# Altium footprint library Potentiometers THD.PcbLib: 15 footprints
Each footprint in its own frame and in the unit in brackets; x right, y up, seen from the top. Pads: shape width x height; smd on the part's side, far side on the other; paste and mask are expansions set on the pad; w line width, h text height; cw(c..) or ccw(c..) is an arc to the next point about the centre after c.
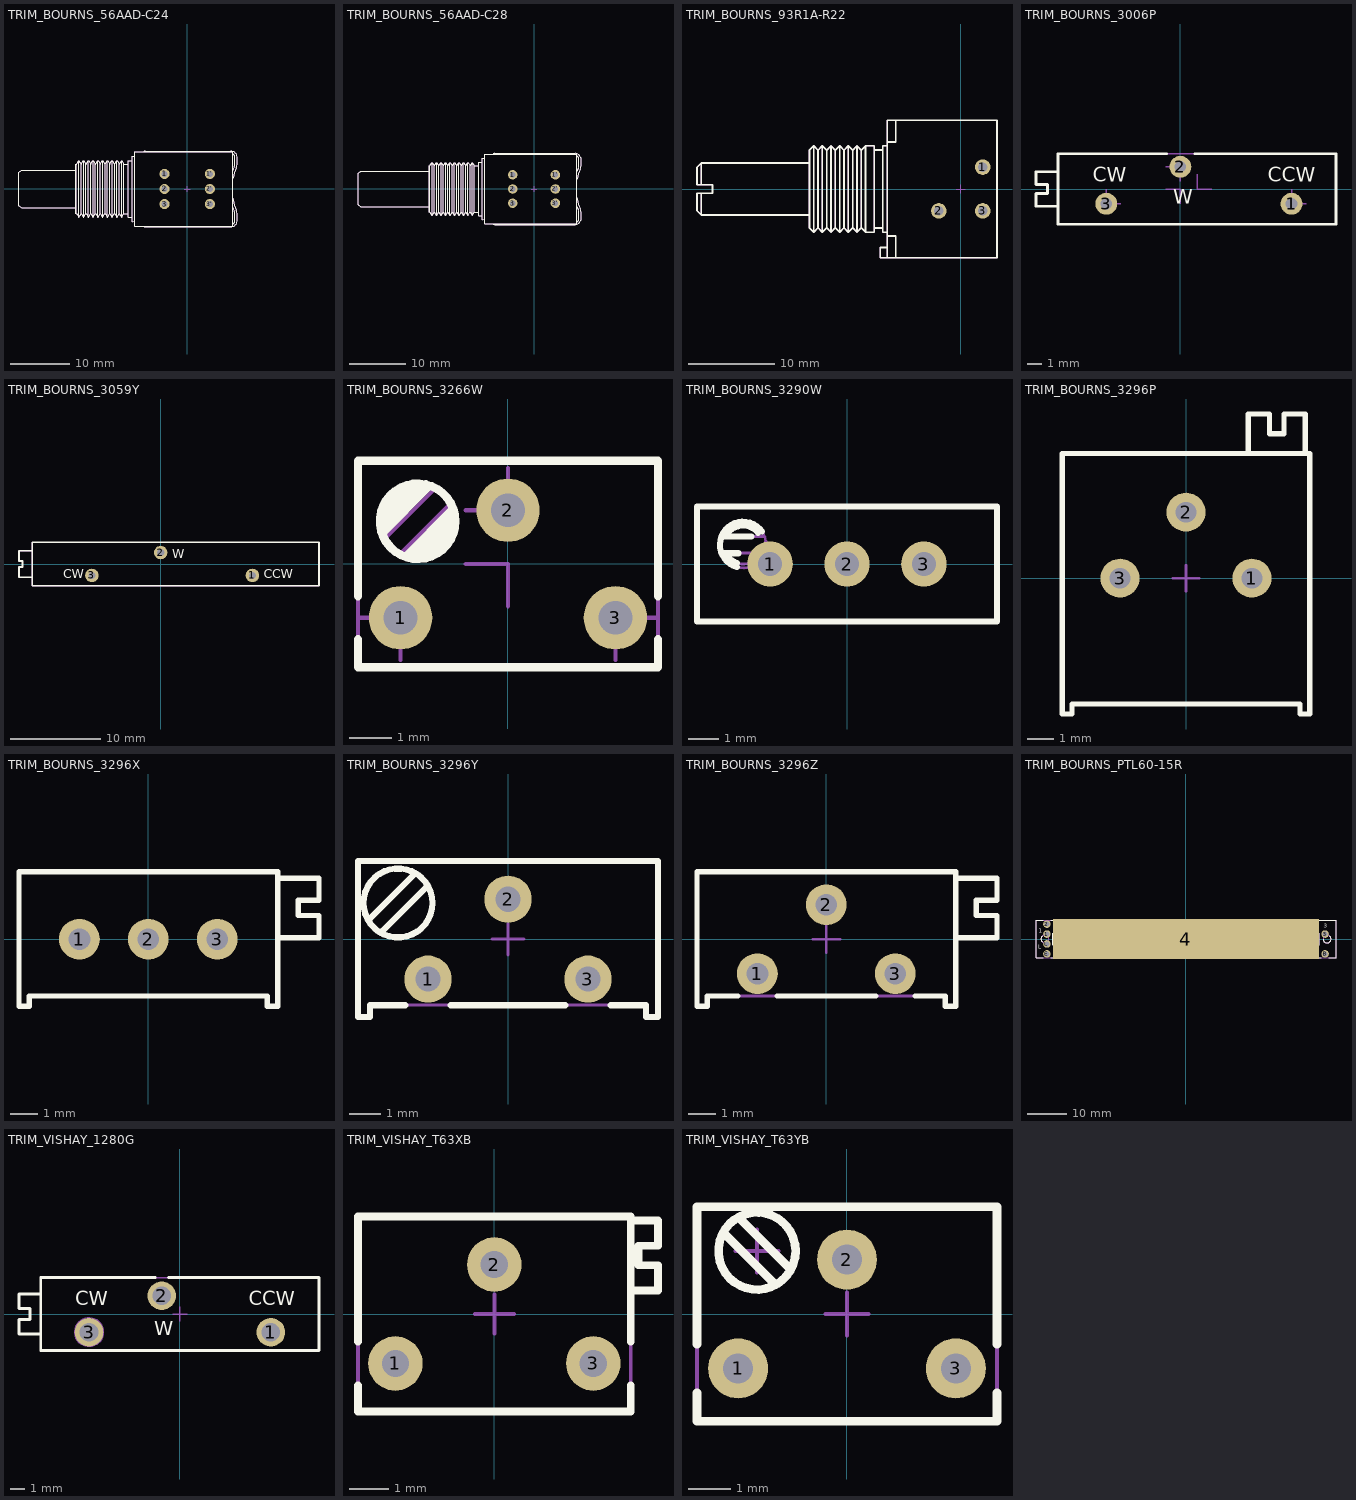
[diagram p0: the footprints below, top view; thin cyan lines are the x and y axes]

## TRIM_BOURNS_56AAD-C24 [mm] "Panel Control Trimming Potentiometer with Rotary (Clock Wise) SPDT Switch, Serie 56"
height 13.25
pads (6):
  round 1.7 hole 1: 1(-3.81,2.54) 1'(3.81,2.54) 2(-3.81,0) 2'(3.81,0) 3(-3.81,-2.54) 3'(3.81,-2.54)
Top Overlay:
  lines w0.2: -18.773,-4.125 -18.773,4.125 ; -18.653,-4.125 -18.603,-4.125 -18.253,-4.725 -18.203,-4.725 -17.853,-4.125 -17.803,-4.125 -17.453,-4.725 -17.403,-4.725 -17.053,-4.125 -17.003,-4.125 -16.653,-4.725 -16.603,-4.725 -16.253,-4.125 -16.203,-4.125 -15.853,-4.725 -15.803,-4.725 -15.453,-4.125 -15.403,-4.125 -15.053,-4.725 -15.003,-4.725 -14.653,-4.125 -14.603,-4.125 -14.253,-4.725 -14.203,-4.725 -13.853,-4.125 -13.803,-4.125 -13.453,-4.725 -13.403,-4.725 -13.053,-4.125 -13.003,-4.125 -12.653,-4.725 -12.603,-4.725 -12.253,-4.125 -12.203,-4.125 -11.853,-4.725 -11.803,-4.725 -11.453,-4.125 -11.403,-4.125 -11.053,-4.725 -11.003,-4.725 -10.653,-4.125 ; -18.653,4.125 -18.603,4.125 -18.253,4.725 -18.203,4.725 -17.853,4.125 -17.803,4.125 -17.453,4.725 -17.403,4.725 -17.053,4.125 -17.003,4.125 -16.653,4.725 -16.603,4.725 -16.253,4.125 -16.203,4.125 -15.853,4.725 -15.803,4.725 -15.453,4.125 -15.403,4.125 -15.053,4.725 -15.003,4.725 -14.653,4.125 -14.603,4.125 -14.253,4.725 -14.203,4.725 -13.853,4.125 -13.803,4.125 -13.453,4.725 -13.403,4.725 -13.053,4.125 -13.003,4.125 -12.653,4.725 -12.603,4.725 -12.253,4.125 -12.203,4.125 -11.853,4.725 -11.803,4.725 -11.453,4.125 -11.403,4.125 -11.053,4.725 -11.003,4.725 -10.653,4.125 ; -18.628,-4.125 -18.628,4.125 ; -18.228,-4.725 -18.228,4.725 ; -17.828,-4.125 -17.828,4.125 ; -17.428,-4.725 -17.428,4.725 ; -17.028,-4.125 -17.028,4.125 ; -16.628,-4.725 -16.628,4.725 ; -16.228,-4.125 -16.228,4.125 ; -15.828,-4.725 -15.828,4.725 ; -15.428,-4.125 -15.428,4.125 ; -15.028,-4.725 -15.028,4.725 ; -14.628,-4.125 -14.628,4.125 ; -14.228,-4.725 -14.228,4.725 ; -13.828,-4.125 -13.828,4.125 ; -13.428,-4.725 -13.428,4.725 ; -13.028,-4.125 -13.028,4.125 ; -12.628,-4.725 -12.628,4.725 ; -12.228,-4.125 -12.228,4.125 ; -11.828,-4.725 -11.828,4.725 ; -11.428,-4.125 -11.428,4.125 ; -11.028,-4.725 -11.028,4.725 ; -9.891,-4.178 -10.653,-4.178 -10.653,4.178 -9.891,4.178 ; -9.256,-4.763 -9.891,-4.763 -9.891,4.762 -9.256,4.762 ; -8.837,-5.447 -9.243,-5.512 -9.243,5.512 -8.837,5.512 ; -7.33,-6.248 ccw(c-7.052,-5.918) -7.052,-6.35 7.354,-6.35 ccw(c7.354,-5.294) 8.41,-5.294 8.41,-4.315 ccw(c6.53,-4.315) 8.246,-3.547 cw(c14.706,-0.656) 7.733,-1.87 7.673,-1.524 ; -7.33,6.248 cw(c-7.052,5.918) -7.052,6.35 7.354,6.35 cw(c7.354,5.294) 8.41,5.294 8.41,4.315 cw(c6.53,4.315) 8.246,3.547 ccw(c14.706,0.656) 7.733,1.87 7.673,1.524 ; 7.673,-5.889 ccw(c7.354,-5.294) 8.029,-5.294 8.029,-4.315 ccw(c6.53,-4.315) 7.898,-3.702 cw(c14.706,-0.656) 7.673,-3.14 ; 7.673,3.14 cw(c14.706,0.656) 7.898,3.702 ccw(c6.53,4.315) 8.029,4.315 8.029,5.294 ccw(c7.354,5.294) 7.673,5.889 ; -28.293,-2.821 -27.793,-3.175 -18.773,-3.175 -18.773,3.175 -27.793,3.175 -28.293,2.821 -28.293,-2.821 ; -8.837,-6.248 7.673,-6.248 7.673,6.248 -8.837,6.248 -8.837,-6.248
Mechanical 8:
  lines w0.1: -4.31,-2.54 -3.81,-2.54 ; -4.31,-0.001 -3.81,-0.001 ; -4.31,2.54 -3.81,2.54 ; -3.81,-3.04 -3.81,-2.54 ; -3.81,-2.04 -3.81,-2.54 ; -3.81,-0.501 -3.81,-0.001 ; -3.81,0.499 -3.81,-0.001 ; -3.81,2.04 -3.81,2.54 ; -3.81,3.04 -3.81,2.54 ; -3.31,-2.54 -3.81,-2.54 ; -3.31,-0.001 -3.81,-0.001 ; -3.31,2.54 -3.81,2.54 ; -0.5,0 0,0 ; 0,-0.5 0,0 ; 0,0.5 0,0 ; 0.5,0 0,0 ; 3.31,-2.54 3.81,-2.54 ; 3.31,-0.001 3.81,-0.001 ; 3.31,2.54 3.81,2.54 ; 3.81,-3.04 3.81,-2.54 ; 3.81,-2.04 3.81,-2.54 ; 3.81,-0.501 3.81,-0.001 ; 3.81,0.499 3.81,-0.001 ; 3.81,2.04 3.81,2.54 ; 3.81,3.04 3.81,2.54 ; 4.31,-2.54 3.81,-2.54 ; 4.31,-0.001 3.81,-0.001 ; 4.31,2.54 3.81,2.54
Mechanical 14:
  lines w0.1: -18.773,-4.125 -18.773,4.125 ; -18.653,-4.125 -18.603,-4.125 -18.253,-4.725 -18.203,-4.725 -17.853,-4.125 -17.803,-4.125 -17.453,-4.725 -17.403,-4.725 -17.053,-4.125 -17.003,-4.125 -16.653,-4.725 -16.603,-4.725 -16.253,-4.125 -16.203,-4.125 -15.853,-4.725 -15.803,-4.725 -15.453,-4.125 -15.403,-4.125 -15.053,-4.725 -15.003,-4.725 -14.653,-4.125 -14.603,-4.125 -14.253,-4.725 -14.203,-4.725 -13.853,-4.125 -13.803,-4.125 -13.453,-4.725 -13.403,-4.725 -13.053,-4.125 -13.003,-4.125 -12.653,-4.725 -12.603,-4.725 -12.253,-4.125 -12.203,-4.125 -11.853,-4.725 -11.803,-4.725 -11.453,-4.125 -11.403,-4.125 -11.053,-4.725 -11.003,-4.725 -10.653,-4.125 ; -18.653,4.125 -18.603,4.125 -18.253,4.725 -18.203,4.725 -17.853,4.125 -17.803,4.125 -17.453,4.725 -17.403,4.725 -17.053,4.125 -17.003,4.125 -16.653,4.725 -16.603,4.725 -16.253,4.125 -16.203,4.125 -15.853,4.725 -15.803,4.725 -15.453,4.125 -15.403,4.125 -15.053,4.725 -15.003,4.725 -14.653,4.125 -14.603,4.125 -14.253,4.725 -14.203,4.725 -13.853,4.125 -13.803,4.125 -13.453,4.725 -13.403,4.725 -13.053,4.125 -13.003,4.125 -12.653,4.725 -12.603,4.725 -12.253,4.125 -12.203,4.125 -11.853,4.725 -11.803,4.725 -11.453,4.125 -11.403,4.125 -11.053,4.725 -11.003,4.725 -10.653,4.125 ; -18.628,-4.125 -18.628,4.125 ; -18.228,-4.725 -18.228,4.725 ; -17.828,-4.125 -17.828,4.125 ; -17.428,-4.725 -17.428,4.725 ; -17.028,-4.125 -17.028,4.125 ; -16.628,-4.725 -16.628,4.725 ; -16.228,-4.125 -16.228,4.125 ; -15.828,-4.725 -15.828,4.725 ; -15.428,-4.125 -15.428,4.125 ; -15.028,-4.725 -15.028,4.725 ; -14.628,-4.125 -14.628,4.125 ; -14.228,-4.725 -14.228,4.725 ; -13.828,-4.125 -13.828,4.125 ; -13.428,-4.725 -13.428,4.725 ; -13.028,-4.125 -13.028,4.125 ; -12.628,-4.725 -12.628,4.725 ; -12.228,-4.125 -12.228,4.125 ; -11.828,-4.725 -11.828,4.725 ; -11.428,-4.125 -11.428,4.125 ; -11.028,-4.725 -11.028,4.725 ; -9.891,-4.178 -10.653,-4.178 -10.653,4.178 -9.891,4.178 ; -9.256,-4.763 -9.891,-4.763 -9.891,4.762 -9.256,4.762 ; -8.837,-5.447 -9.243,-5.512 -9.243,5.512 -8.837,5.512 ; -7.33,-6.248 ccw(c-7.052,-5.918) -7.052,-6.35 7.354,-6.35 ccw(c7.354,-5.294) 8.41,-5.294 8.41,-4.315 ccw(c6.53,-4.315) 8.246,-3.547 cw(c14.706,-0.656) 7.733,-1.87 7.673,-1.524 ; -7.33,6.248 cw(c-7.052,5.918) -7.052,6.35 7.354,6.35 cw(c7.354,5.294) 8.41,5.294 8.41,4.315 cw(c6.53,4.315) 8.246,3.547 ccw(c14.706,0.656) 7.733,1.87 7.673,1.524 ; 7.673,-5.889 ccw(c7.354,-5.294) 8.029,-5.294 8.029,-4.315 ccw(c6.53,-4.315) 7.898,-3.702 cw(c14.706,-0.656) 7.673,-3.14 ; 7.673,3.14 cw(c14.706,0.656) 7.898,3.702 ccw(c6.53,4.315) 8.029,4.315 8.029,5.294 ccw(c7.354,5.294) 7.673,5.889 ; -28.293,-2.821 -27.793,-3.175 -18.773,-3.175 -18.773,3.175 -27.793,3.175 -28.293,2.821 -28.293,-2.821 ; -8.837,-6.248 7.673,-6.248 7.673,6.248 -8.837,6.248 -8.837,-6.248
3D body "TRIM_BOURNS_56AAD-C24_Part2.stp": height 14.09, standoff -0.12, extent -12.582,-6.772 -9.241,6.772
3D body "TRIM_BOURNS_56AAD-C24_Part1.stp": height 13.23, standoff -6.9, extent -28.293,-6.35 8.41,6.35

## TRIM_BOURNS_56AAD-C28 [mm] "Panel Control Trimming Potentiometer with Rotary (Clock Wise) SPDT Switch, Serie 56"
height 13.25
pads (6):
  round 1.7 hole 1: 1(-3.81,2.54) 1'(3.81,2.54) 2(-3.81,0) 2'(3.81,0) 3(-3.81,-2.54) 3'(3.81,-2.54)
Top Overlay:
  lines w0.2: -18.773,-4.125 -18.773,4.125 ; -18.653,-4.125 -18.603,-4.125 -18.253,-4.725 -18.203,-4.725 -17.853,-4.125 -17.803,-4.125 -17.453,-4.725 -17.403,-4.725 -17.053,-4.125 -17.003,-4.125 -16.653,-4.725 -16.603,-4.725 -16.253,-4.125 -16.203,-4.125 -15.853,-4.725 -15.803,-4.725 -15.453,-4.125 -15.403,-4.125 -15.053,-4.725 -15.003,-4.725 -14.653,-4.125 -14.603,-4.125 -14.253,-4.725 -14.203,-4.725 -13.853,-4.125 -13.803,-4.125 -13.453,-4.725 -13.403,-4.725 -13.053,-4.125 -13.003,-4.125 -12.653,-4.725 -12.603,-4.725 -12.253,-4.125 -12.203,-4.125 -11.853,-4.725 -11.803,-4.725 -11.453,-4.125 -11.403,-4.125 -11.053,-4.725 -11.003,-4.725 -10.653,-4.125 ; -18.653,4.125 -18.603,4.125 -18.253,4.725 -18.203,4.725 -17.853,4.125 -17.803,4.125 -17.453,4.725 -17.403,4.725 -17.053,4.125 -17.003,4.125 -16.653,4.725 -16.603,4.725 -16.253,4.125 -16.203,4.125 -15.853,4.725 -15.803,4.725 -15.453,4.125 -15.403,4.125 -15.053,4.725 -15.003,4.725 -14.653,4.125 -14.603,4.125 -14.253,4.725 -14.203,4.725 -13.853,4.125 -13.803,4.125 -13.453,4.725 -13.403,4.725 -13.053,4.125 -13.003,4.125 -12.653,4.725 -12.603,4.725 -12.253,4.125 -12.203,4.125 -11.853,4.725 -11.803,4.725 -11.453,4.125 -11.403,4.125 -11.053,4.725 -11.003,4.725 -10.653,4.125 ; -18.628,-4.125 -18.628,4.125 ; -18.228,-4.725 -18.228,4.725 ; -17.828,-4.125 -17.828,4.125 ; -17.428,-4.725 -17.428,4.725 ; -17.028,-4.125 -17.028,4.125 ; -16.628,-4.725 -16.628,4.725 ; -16.228,-4.125 -16.228,4.125 ; -15.828,-4.725 -15.828,4.725 ; -15.428,-4.125 -15.428,4.125 ; -15.028,-4.725 -15.028,4.725 ; -14.628,-4.125 -14.628,4.125 ; -14.228,-4.725 -14.228,4.725 ; -13.828,-4.125 -13.828,4.125 ; -13.428,-4.725 -13.428,4.725 ; -13.028,-4.125 -13.028,4.125 ; -12.628,-4.725 -12.628,4.725 ; -12.228,-4.125 -12.228,4.125 ; -11.828,-4.725 -11.828,4.725 ; -11.428,-4.125 -11.428,4.125 ; -11.028,-4.725 -11.028,4.725 ; -9.891,-4.178 -10.653,-4.178 -10.653,4.178 -9.891,4.178 ; -9.256,-4.763 -9.891,-4.763 -9.891,4.762 -9.256,4.762 ; -8.837,-5.447 -9.243,-5.512 -9.243,5.512 -8.837,5.512 ; -7.33,-6.248 ccw(c-7.052,-5.918) -7.052,-6.35 7.354,-6.35 ccw(c7.354,-5.294) 8.41,-5.294 8.41,-4.315 ccw(c6.53,-4.315) 8.246,-3.547 cw(c14.706,-0.656) 7.733,-1.87 7.673,-1.524 ; -7.33,6.248 cw(c-7.052,5.918) -7.052,6.35 7.354,6.35 cw(c7.354,5.294) 8.41,5.294 8.41,4.315 cw(c6.53,4.315) 8.246,3.547 ccw(c14.706,0.656) 7.733,1.87 7.673,1.524 ; 7.673,-5.889 ccw(c7.354,-5.294) 8.029,-5.294 8.029,-4.315 ccw(c6.53,-4.315) 7.898,-3.702 cw(c14.706,-0.656) 7.673,-3.14 ; 7.673,3.14 cw(c14.706,0.656) 7.898,3.702 ccw(c6.53,4.315) 8.029,4.315 8.029,5.294 ccw(c7.354,5.294) 7.673,5.889 ; -31.473,-2.821 -30.973,-3.175 -18.773,-3.175 -18.773,3.175 -30.973,3.175 -31.473,2.821 -31.473,-2.821 ; -8.837,-6.248 7.673,-6.248 7.673,6.248 -8.837,6.248 -8.837,-6.248
Mechanical 8:
  lines w0.1: -4.31,-2.54 -3.81,-2.54 ; -4.31,-0.001 -3.81,-0.001 ; -4.31,2.54 -3.81,2.54 ; -3.81,-3.04 -3.81,-2.54 ; -3.81,-2.04 -3.81,-2.54 ; -3.81,-0.501 -3.81,-0.001 ; -3.81,0.499 -3.81,-0.001 ; -3.81,2.04 -3.81,2.54 ; -3.81,3.04 -3.81,2.54 ; -3.31,-2.54 -3.81,-2.54 ; -3.31,-0.001 -3.81,-0.001 ; -3.31,2.54 -3.81,2.54 ; -0.5,0 0,0 ; 0,-0.5 0,0 ; 0,0.5 0,0 ; 0.5,0 0,0 ; 3.31,-2.54 3.81,-2.54 ; 3.31,-0.001 3.81,-0.001 ; 3.31,2.54 3.81,2.54 ; 3.81,-3.04 3.81,-2.54 ; 3.81,-2.04 3.81,-2.54 ; 3.81,-0.501 3.81,-0.001 ; 3.81,0.499 3.81,-0.001 ; 3.81,2.04 3.81,2.54 ; 3.81,3.04 3.81,2.54 ; 4.31,-2.54 3.81,-2.54 ; 4.31,-0.001 3.81,-0.001 ; 4.31,2.54 3.81,2.54
Mechanical 14:
  lines w0.1: -18.773,-4.125 -18.773,4.125 ; -18.653,-4.125 -18.603,-4.125 -18.253,-4.725 -18.203,-4.725 -17.853,-4.125 -17.803,-4.125 -17.453,-4.725 -17.403,-4.725 -17.053,-4.125 -17.003,-4.125 -16.653,-4.725 -16.603,-4.725 -16.253,-4.125 -16.203,-4.125 -15.853,-4.725 -15.803,-4.725 -15.453,-4.125 -15.403,-4.125 -15.053,-4.725 -15.003,-4.725 -14.653,-4.125 -14.603,-4.125 -14.253,-4.725 -14.203,-4.725 -13.853,-4.125 -13.803,-4.125 -13.453,-4.725 -13.403,-4.725 -13.053,-4.125 -13.003,-4.125 -12.653,-4.725 -12.603,-4.725 -12.253,-4.125 -12.203,-4.125 -11.853,-4.725 -11.803,-4.725 -11.453,-4.125 -11.403,-4.125 -11.053,-4.725 -11.003,-4.725 -10.653,-4.125 ; -18.653,4.125 -18.603,4.125 -18.253,4.725 -18.203,4.725 -17.853,4.125 -17.803,4.125 -17.453,4.725 -17.403,4.725 -17.053,4.125 -17.003,4.125 -16.653,4.725 -16.603,4.725 -16.253,4.125 -16.203,4.125 -15.853,4.725 -15.803,4.725 -15.453,4.125 -15.403,4.125 -15.053,4.725 -15.003,4.725 -14.653,4.125 -14.603,4.125 -14.253,4.725 -14.203,4.725 -13.853,4.125 -13.803,4.125 -13.453,4.725 -13.403,4.725 -13.053,4.125 -13.003,4.125 -12.653,4.725 -12.603,4.725 -12.253,4.125 -12.203,4.125 -11.853,4.725 -11.803,4.725 -11.453,4.125 -11.403,4.125 -11.053,4.725 -11.003,4.725 -10.653,4.125 ; -18.628,-4.125 -18.628,4.125 ; -18.228,-4.725 -18.228,4.725 ; -17.828,-4.125 -17.828,4.125 ; -17.428,-4.725 -17.428,4.725 ; -17.028,-4.125 -17.028,4.125 ; -16.628,-4.725 -16.628,4.725 ; -16.228,-4.125 -16.228,4.125 ; -15.828,-4.725 -15.828,4.725 ; -15.428,-4.125 -15.428,4.125 ; -15.028,-4.725 -15.028,4.725 ; -14.628,-4.125 -14.628,4.125 ; -14.228,-4.725 -14.228,4.725 ; -13.828,-4.125 -13.828,4.125 ; -13.428,-4.725 -13.428,4.725 ; -13.028,-4.125 -13.028,4.125 ; -12.628,-4.725 -12.628,4.725 ; -12.228,-4.125 -12.228,4.125 ; -11.828,-4.725 -11.828,4.725 ; -11.428,-4.125 -11.428,4.125 ; -11.028,-4.725 -11.028,4.725 ; -9.891,-4.178 -10.653,-4.178 -10.653,4.178 -9.891,4.178 ; -9.256,-4.763 -9.891,-4.763 -9.891,4.762 -9.256,4.762 ; -8.837,-5.447 -9.243,-5.512 -9.243,5.512 -8.837,5.512 ; -7.33,-6.248 ccw(c-7.052,-5.918) -7.052,-6.35 7.354,-6.35 ccw(c7.354,-5.294) 8.41,-5.294 8.41,-4.315 ccw(c6.53,-4.315) 8.246,-3.547 cw(c14.706,-0.656) 7.733,-1.87 7.673,-1.524 ; -7.33,6.248 cw(c-7.052,5.918) -7.052,6.35 7.354,6.35 cw(c7.354,5.294) 8.41,5.294 8.41,4.315 cw(c6.53,4.315) 8.246,3.547 ccw(c14.706,0.656) 7.733,1.87 7.673,1.524 ; 7.673,-5.889 ccw(c7.354,-5.294) 8.029,-5.294 8.029,-4.315 ccw(c6.53,-4.315) 7.898,-3.702 cw(c14.706,-0.656) 7.673,-3.14 ; 7.673,3.14 cw(c14.706,0.656) 7.898,3.702 ccw(c6.53,4.315) 8.029,4.315 8.029,5.294 ccw(c7.354,5.294) 7.673,5.889 ; -31.473,-2.821 -30.973,-3.175 -18.773,-3.175 -18.773,3.175 -30.973,3.175 -31.473,2.821 -31.473,-2.821 ; -8.837,-6.248 7.673,-6.248 7.673,6.248 -8.837,6.248 -8.837,-6.248
3D body "TRIM_BOURNS_56AAD-C28_Part2.stp": height 14.09, standoff -0.12, extent -12.582,-6.772 -9.241,6.772
3D body "TRIM_BOURNS_56AAD-C28_Part1.stp": height 13.23, standoff -6.9, extent -31.473,-6.35 8.41,6.35

## TRIM_BOURNS_93R1A-R22 [mm] "1 Turn Panel Control Trimming Potentiometer 93 Series"
height 17.45
pads (3):
  round 1.8 hole 1.1: 1(2.54,2.54) 2(-2.54,-2.54) 3(2.54,-2.54)
Top Overlay:
  lines w0.2: -30.01,-0.5 -30.01,-3 ; -30.01,0.5 -30.01,3 ; -17.51,-3 -30.01,-3 ; -17.51,3 -30.01,3 ; -10.01,-4.5 -9.01,-4.5 ; -10.01,4.5 -9.01,4.5 ; -8.51,-7.94 -8.51,7.94 4.19,7.94 4.19,-7.94 -9.3,-7.94 -9.3,-6.76 -8.51,-6.76 ; -8.51,-5.44 -7.51,-5.44 -7.51,-7.94 ; -8.51,-5 -9.01,-5 -9.01,5 -8.51,5 ; -8.51,5.44 -7.51,5.44 -7.51,7.94 ; -30.01,-3 -30.51,-2.5 -30.51,-0.5 -28.71,-0.5 -28.71,0.5 -30.51,0.5 -30.51,2.5 -30.01,3 ; -17.01,-5 -17.01,5 ; -17.01,-5 -16.51,-4.5 ; -17.01,-5 -17.51,-4.5 -17.51,4.5 -17.01,5 ; -17.01,5 -16.51,4.5 ; -16.51,-4.5 -16.51,4.5 ; -16.51,-4.5 -16.01,-5 ; -16.51,4.5 -16.01,5 ; -16.01,-5 -16.01,5 ; -16.01,-5 -15.51,-4.5 ; -16.01,5 -15.51,4.5 ; -15.51,-4.5 -15.51,4.5 ; -15.51,-4.5 -15.01,-5 ; -15.51,4.5 -15.01,5 ; -15.01,-5 -15.01,5 ; -15.01,-5 -14.51,-4.5 ; -15.01,5 -14.51,4.5 ; -14.51,-4.5 -14.51,4.5 ; -14.51,-4.5 -14.01,-5 ; -14.51,4.5 -14.01,5 ; -14.01,-5 -14.01,5 ; -14.01,-5 -13.51,-4.5 ; -14.01,5 -13.51,4.5 ; -13.51,-4.5 -13.51,4.5 ; -13.51,-4.5 -13.01,-5 ; -13.51,4.5 -13.01,5 ; -13.01,-5 -13.01,5 ; -13.01,-5 -12.51,-4.5 ; -13.01,5 -12.51,4.5 ; -12.51,-4.5 -12.51,4.5 ; -12.51,-4.5 -12.01,-5 ; -12.51,4.5 -12.01,5 ; -12.01,-5 -12.01,5 ; -12.01,-5 -11.51,-4.5 ; -12.01,5 -11.51,4.5 ; -11.51,-4.5 -11.51,4.5 ; -11.51,-4.5 -11.01,-5 ; -11.51,4.5 -11.01,5 ; -11.01,-5 -11.01,5 ; -11.01,-5 -10.01,-5 -10.01,5 -11.01,5
Mechanical 8:
  lines w0.05: -3.04,-2.54 -2.54,-2.54 ; -2.54,-3.04 -2.54,-2.54 ; -2.54,-2.04 -2.54,-2.54 ; -2.04,-2.54 -2.54,-2.54 ; -0.5,0 0,0 ; 0,-0.5 0,0 ; 0,0.5 0,0 ; 0.5,0 0,0 ; 2.04,-2.54 2.54,-2.54 ; 2.04,2.54 2.54,2.54 ; 2.54,-3.04 2.54,-2.54 ; 2.54,-2.04 2.54,-2.54 ; 2.54,2.04 2.54,2.54 ; 2.54,3.04 2.54,2.54 ; 3.04,-2.54 2.54,-2.54 ; 3.04,2.54 2.54,2.54
Mechanical 14:
  lines w0.1: -30.01,-0.5 -30.01,-3 ; -30.01,0.5 -30.01,3 ; -17.51,-3 -30.01,-3 ; -17.51,3 -30.01,3 ; -10.01,-4.5 -9.01,-4.5 ; -10.01,4.5 -9.01,4.5 ; -8.51,-7.94 -8.51,7.94 4.19,7.94 4.19,-7.94 -9.3,-7.94 -9.3,-6.76 -8.51,-6.76 ; -8.51,-5.44 -7.51,-5.44 -7.51,-7.94 ; -8.51,-5 -9.01,-5 -9.01,5 -8.51,5 ; -8.51,5.44 -7.51,5.44 -7.51,7.94 ; -30.01,-3 -30.51,-2.5 -30.51,-0.5 -28.71,-0.5 -28.71,0.5 -30.51,0.5 -30.51,2.5 -30.01,3 ; -17.01,-5 -17.01,5 ; -17.01,-5 -16.51,-4.5 ; -17.01,-5 -17.51,-4.5 -17.51,4.5 -17.01,5 ; -17.01,5 -16.51,4.5 ; -16.51,-4.5 -16.51,4.5 ; -16.51,-4.5 -16.01,-5 ; -16.51,4.5 -16.01,5 ; -16.01,-5 -16.01,5 ; -16.01,-5 -15.51,-4.5 ; -16.01,5 -15.51,4.5 ; -15.51,-4.5 -15.51,4.5 ; -15.51,-4.5 -15.01,-5 ; -15.51,4.5 -15.01,5 ; -15.01,-5 -15.01,5 ; -15.01,-5 -14.51,-4.5 ; -15.01,5 -14.51,4.5 ; -14.51,-4.5 -14.51,4.5 ; -14.51,-4.5 -14.01,-5 ; -14.51,4.5 -14.01,5 ; -14.01,-5 -14.01,5 ; -14.01,-5 -13.51,-4.5 ; -14.01,5 -13.51,4.5 ; -13.51,-4.5 -13.51,4.5 ; -13.51,-4.5 -13.01,-5 ; -13.51,4.5 -13.01,5 ; -13.01,-5 -13.01,5 ; -13.01,-5 -12.51,-4.5 ; -13.01,5 -12.51,4.5 ; -12.51,-4.5 -12.51,4.5 ; -12.51,-4.5 -12.01,-5 ; -12.51,4.5 -12.01,5 ; -12.01,-5 -12.01,5 ; -12.01,-5 -11.51,-4.5 ; -12.01,5 -11.51,4.5 ; -11.51,-4.5 -11.51,4.5 ; -11.51,-4.5 -11.01,-5 ; -11.51,4.5 -11.01,5 ; -11.01,-5 -11.01,5 ; -11.01,-5 -10.01,-5 -10.01,5 -11.01,5
3D body "TRIM_BOURNS_93R1A-R22_1.stp": height 16.3, standoff 2.76, extent -14.137,-7.103 -10.796,7.103
3D body "TRIM_BOURNS_93R1A-R22.stp": height 17.45, standoff -12.7, extent -30.51,-7.94 4.19,7.94

## TRIM_BOURNS_3006P [mm] "Trimming Potentiometer BOURNS 3006P Series"
height 6.35
pads (3):
  round 1.5 hole 0.8: 1(7.62,-1.015) 2(0,1.525) 3(-5.08,-1.015)
Top Overlay:
  lines w0.2: -8.38,-1.18 -9.9,-1.18 -9.9,-0.32 -9.11,-0.32 -9.11,0.32 -9.9,0.32 -9.9,1.18 -8.38,1.18 ; -0.95,2.415 -8.38,2.415 -8.38,-2.415 10.67,-2.415 10.67,2.415 1,2.415
  text "CW" at -6,0.5 h1
  text "W" at -0.5,-1 h1
  text "CCW" at 6,0.5 h1
Mechanical 8:
  circle w0.1: c7.62,-1.015 r0.27
  circle w0.1: c-5.08,-1.015 r0.27
  circle w0.1: c0,1.525 r0.27
  lines w0.1: -5.08,-0.015 -5.08,-1.015 -4.08,-1.015 ; -1,0 0,0 0,-1 ; -1,1.525 0,1.525 0,0.525 ; 1.145,1 1.145,0 2.145,0 ; 7.62,-0.015 7.62,-1.015 8.62,-1.015
Mechanical 14:
  lines w0.1: -8.38,-1.18 -9.9,-1.18 -9.9,-0.32 -9.11,-0.32 -9.11,0.32 -9.9,0.32 -9.9,1.18 -8.38,1.18 ; -8.38,-2.415 10.67,-2.415 10.67,2.415 -8.38,2.415 -8.38,-2.415
  text "CW" at -6,0.5 h1
  text "W" at -0.5,-1 h1
  text "CCW" at 6,0.5 h1
3D body "TRIM_BOURNS_3006P.stp": height 6.35, standoff -3.1, extent -9.9,-2.415 10.67,2.415

## TRIM_BOURNS_3059Y [mm] "Trimming Potentiometer BOURNS 3059 Series"
height 8.38
pads (3):
  round 1.5 hole 0.8: 1(10.16,-1.27) 2(0,1.27) 3(-7.62,-1.27)
Top Overlay:
  lines w0.2: -14.22,-1.46 -15.69,-1.46 ; -14.22,1.46 -15.69,1.46 -15.69,0.32 -15.295,0.32 -15.295,-0.32 -15.69,-0.32 ; -15.69,-1.46 -15.69,-0.32 ; -15.69,-1.46 -15.69,-0.32 ; -14.22,-2.415 -14.22,2.415 17.53,2.415 17.53,-2.415 -14.22,-2.415
  text "CCW" at 11.43,-1.587 h1
  text "W" at 1.27,0.635 h1
  text "CW" at -10.795,-1.587 h1
Mechanical 14:
  lines w0.1: -14.22,-1.46 -15.69,-1.46 -15.69,-0.32 -15.295,-0.32 -15.295,0.32 -15.69,0.32 -15.69,1.46 -14.22,1.46 ; -14.22,-2.415 -14.22,2.415 17.53,2.415 17.53,-2.415 -14.22,-2.415
3D body "TRIM_BOURNS_3059Y.stp": height 8.38, standoff -3.8, extent -16.25,-2.415 17.53,2.415

## TRIM_BOURNS_3266W [mm] "Trimming Potentiometer BOURNS 3266W Series"
height 7.75
pads (3):
  round 1.5 hole 0.8: 1(-2.54,-1.27) 2(0,1.27) 3(2.54,-1.27)
Top Overlay:
  circle w0.2: c-2.135,1.01 r0.89
  lines w0.2: -3.545,-1.775 -3.545,-2.44 3.545,-2.44 3.545,-1.775 ; -3.545,-0.765 -3.545,2.44 3.545,2.44 3.545,-0.765 ; -3.012,1.088 -2.228,1.878 ; -3,0.9 -2.028,1.878 ; -2.962,0.737 -1.865,1.84 ; -2.953,1.353 -2.503,1.803 ; -2.405,0.18 -1.308,1.283 ; -2.242,0.142 -1.27,1.12 ; -2.042,0.142 -1.258,0.933 ; -1.767,0.217 -1.317,0.667
Mechanical 8:
  circle w0.1: c0,1.27 r0.245
  circle w0.1: c-2.54,-1.27 r0.245
  circle w0.1: c2.54,-1.27 r0.245
  lines w0.1: -3.54,-1.27 -2.54,-1.27 -2.54,-2.27 ; -1,0 0,0 0,-1 ; -1,1.27 0,1.27 0,2.27 ; 2.54,-2.27 2.54,-1.27 3.54,-1.27
Mechanical 14:
  circle w0.1: c-2.135,1.01 r0.89
  lines w0.1: -2.918,0.587 -1.712,1.793 ; -2.558,0.227 -1.352,1.433 ; -3.545,-2.44 -3.545,2.44 3.545,2.44 3.545,-2.44 -3.545,-2.44
3D body "TRIM_BOURNS_3266W.stp": height 8.77, standoff -3.1, extent -3.545,-2.44 3.545,2.44

## TRIM_BOURNS_3290W [mm] "Trimming Potentiometer BOURNS 3290W Series"
height 9.91
pads (3):
  round 1.5 hole 0.8: 1(-2.54,0) 2(0,0) 3(2.54,0)
Top Overlay:
  lines w0.2: -4.144,0.356 -3.581,0.356 ; -4.144,0.914 -3.151,0.914 ; -4.005,0.356 ccw(c-3.435,0.635) -3.639,0.034 ; -4.005,0.914 cw(c-3.435,0.635) -2.935,1.027 ; -3.635,-0.1 cw(c-3.435,0.635) -2.807,1.067 ; -4.955,-1.905 -4.955,1.905 4.955,1.905 4.955,-1.905 -4.955,-1.905
Mechanical 8:
  lines w0.05: -3.04,0 -2.54,0 ; -2.54,-0.5 -2.54,0 ; -2.54,0.5 -2.54,0 ; -2.04,0 -2.54,0 ; -0.5,0 0,0 ; 0,-0.5 0,0 ; 0,0.5 0,0 ; 0.5,0 0,0 ; 2.04,0 2.54,0 ; 2.54,-0.5 2.54,0 ; 2.54,0.5 2.54,0 ; 3.04,0 2.54,0
Mechanical 14:
  circle w0.1: c-3.435,0.635 r0.762
  lines w0.1: -4.144,0.356 -2.726,0.356 ; -4.144,0.914 -2.726,0.914 ; -4.005,0.356 ccw(c-3.435,0.635) -2.865,0.356 ; -4.005,0.914 cw(c-3.435,0.635) -2.865,0.914 ; -4.955,-1.905 -4.955,1.905 4.955,1.905 4.955,-1.905 -4.955,-1.905
3D body "TRIM_BOURNS_3290W.stp": height 10.93, standoff -8.38, extent -4.955,-1.905 4.955,1.905

## TRIM_BOURNS_3296P [mm] "Trimming Potentiometer BOURNS 3296P Series"
height 4.96
pads (3):
  round 1.5 hole 0.8: 1(2.54,0) 2(0,2.54) 3(-2.54,0)
Top Overlay:
  lines w0.2: 2.4,4.8 2.4,6.32 3.215,6.32 3.215,5.56 3.775,5.56 3.775,6.32 4.59,6.32 4.59,4.8 ; -4.765,-5.23 -4.765,4.8 4.765,4.8 4.765,-5.23 4.385,-5.23 4.385,-4.85 -4.385,-4.85 -4.385,-5.23 -4.765,-5.23
Mechanical 8:
  lines w0.05: -3.04,0 -2.54,0 ; -2.54,-0.5 -2.54,0 ; -2.54,0.5 -2.54,0 ; -2.04,0 -2.54,0 ; -0.5,2.54 0,2.54 ; 0,2.04 0,2.54 ; 0,3.04 0,2.54 ; 0.5,2.54 0,2.54 ; 2.04,0 2.54,0 ; 2.54,-0.5 2.54,0 ; 2.54,0.5 2.54,0 ; 3.04,0 2.54,0
  lines w0.1: -0.5,0 0,0 ; 0,-0.5 0,0 ; 0,0.5 0,0 ; 0.5,0 0,0
Mechanical 14:
  lines w0.1: 2.4,4.8 2.4,6.32 3.215,6.32 3.215,5.56 3.775,5.56 3.775,6.32 4.59,6.32 4.59,4.8 ; -4.765,-5.23 -4.385,-5.23 -4.385,-4.85 4.385,-4.85 4.385,-5.23 4.765,-5.23 4.765,4.8 -4.765,4.8 -4.765,-5.23
3D body "TRIM_BOURNS_3296P.stp": height 4.96, standoff -3.42, extent -4.765,-5.23 4.765,6.32

## TRIM_BOURNS_3296X [mm] "Trimming Potentiometer BOURNS 3296X Series"
height 10.03
pads (3):
  round 1.5 hole 0.8: 1(-2.54,0) 2(0,0) 3(2.54,0)
Top Overlay:
  lines w0.2: 4.765,0.055 6.285,0.055 6.285,0.87 5.525,0.87 5.525,1.15 5.525,1.43 6.285,1.43 6.285,2.245 4.765,2.245 ; -4.765,-2.475 -4.385,-2.475 -4.385,-2.095 4.385,-2.095 4.385,-2.475 4.765,-2.475 4.765,2.485 -4.765,2.485 -4.765,-2.475
Mechanical 8:
  lines w0.1: -3.04,0 -2.54,0 ; -2.54,-0.5 -2.54,0 ; -2.54,0.5 -2.54,0 ; -2.04,0 -2.54,0 ; -0.5,0 0,0 ; 0,-0.5 0,0 ; 0,0.5 0,0 ; 0.5,0 0,0 ; 2.04,0 2.54,0 ; 2.54,-0.5 2.54,0 ; 2.54,0.5 2.54,0 ; 3.04,0 2.54,0
Mechanical 14:
  lines w0.1: 4.765,0.055 6.285,0.055 6.285,0.87 5.525,0.87 5.525,1.15 5.525,1.43 6.285,1.43 6.285,2.245 4.765,2.245 ; -4.765,-2.475 -4.385,-2.475 -4.385,-2.095 4.385,-2.095 4.385,-2.475 4.765,-2.475 4.765,2.485 -4.765,2.485 -4.765,-2.475
3D body "TRIM_BOURNS_3296X.stp": height 10.03, standoff -3.42, extent -4.765,-2.475 6.285,2.485

## TRIM_BOURNS_3296Y [mm] "Trimming Potentiometer BOURNS 3296Y Series"
height 11.55
pads (3):
  round 1.5 hole 0.8: 1(-2.54,-1.27) 2(0,1.27) 3(2.54,-1.27)
Top Overlay:
  circle w0.2: c-3.495,1.15 r1.095
  lines w0.2: -4.442,0.599 -2.944,2.097 ; -4.046,0.203 -2.548,1.701 ; -3.265,-2.095 -4.385,-2.095 -4.385,-2.475 -4.765,-2.475 -4.765,2.485 4.765,2.485 4.765,-2.475 4.385,-2.475 4.385,-2.095 3.265,-2.095 ; -1.816,-2.095 1.816,-2.095
Mechanical 8:
  lines w0.1: -3.04,-1.27 -2.54,-1.27 ; -2.54,-1.77 -2.54,-1.27 ; -2.54,-0.77 -2.54,-1.27 ; -2.04,-1.27 -2.54,-1.27 ; -0.5,0 0,0 ; -0.5,1.27 0,1.27 ; 0,-0.5 0,0 ; 0,0.5 0,0 ; 0,0.77 0,1.27 ; 0,1.77 0,1.27 ; 0.5,0 0,0 ; 0.5,1.27 0,1.27 ; 2.04,-1.27 2.54,-1.27 ; 2.54,-1.77 2.54,-1.27 ; 2.54,-0.77 2.54,-1.27 ; 3.04,-1.27 2.54,-1.27
Mechanical 14:
  circle w0.1: c-3.495,1.15 r1.095
  lines w0.1: -4.442,0.599 -2.944,2.097 ; -4.046,0.203 -2.548,1.701 ; -4.765,-2.475 -4.385,-2.475 -4.385,-2.095 4.385,-2.095 4.385,-2.475 4.765,-2.475 4.765,2.485 -4.765,2.485 -4.765,-2.475
3D body "TRIM_BOURNS_3296Y.stp": height 11.49, standoff -3.42, extent -4.765,-2.475 4.765,2.485

## TRIM_BOURNS_3296Z [mm] "Trimming Potentiometer BOURNS 3296Z Series"
height 10.03
pads (3):
  round 1.5 hole 0.8: 1(-2.54,-1.27) 2(0,1.27) 3(2.54,-1.27)
Top Overlay:
  lines w0.2: -3.265,-2.095 -4.385,-2.095 -4.385,-2.475 -4.765,-2.475 -4.765,2.485 4.765,2.485 4.765,-2.475 4.385,-2.475 4.385,-2.095 3.265,-2.095 ; -1.816,-2.095 1.816,-2.095 ; 4.765,0.055 6.285,0.055 6.285,0.87 5.525,0.87 5.525,1.15 5.525,1.43 6.285,1.43 6.285,2.245 4.765,2.245
Mechanical 8:
  lines w0.1: -3.04,-1.27 -2.54,-1.27 ; -2.54,-1.77 -2.54,-1.27 ; -2.54,-0.77 -2.54,-1.27 ; -2.04,-1.27 -2.54,-1.27 ; -0.5,0 0,0 ; -0.5,1.27 0,1.27 ; 0,-0.5 0,0 ; 0,0.5 0,0 ; 0,0.77 0,1.27 ; 0,1.77 0,1.27 ; 0.5,0 0,0 ; 0.5,1.27 0,1.27 ; 2.04,-1.27 2.54,-1.27 ; 2.54,-1.77 2.54,-1.27 ; 2.54,-0.77 2.54,-1.27 ; 3.04,-1.27 2.54,-1.27
Mechanical 14:
  lines w0.1: 4.765,0.055 6.285,0.055 6.285,0.87 5.525,0.87 5.525,1.15 5.525,1.43 6.285,1.43 6.285,2.245 4.765,2.245 ; -4.765,-2.475 -4.765,2.485 4.765,2.485 4.765,-2.475 4.385,-2.475 4.385,-2.095 -4.385,-2.095 -4.385,-2.475 -4.765,-2.475
3D body "TRIM_BOURNS_3296Z.stp": height 10.03, standoff -3.42, extent -4.765,-2.475 6.285,2.485

## TRIM_BOURNS_PTL60-15R [mm] "Slide Potentiometer with Red LED, 60mm Travel Length, 15mm Lever Length, Serie PTL"
height 22.5
pads (7):
  round 1.9 hole 1.2: 1(-35,1.25) 2(-35,3.75) 3(35,1.25) B(35,-3.75) E(-35,-3.75) L(-35,-1.25)
  rect 67x10 smd paste-5 mask-5: 4(0,0)
Top Overlay:
  lines w0.2: -36.227,-0.687 cw(c-35.5,0) -36.227,0.687 ; -35.907,-4.75 -37.75,-4.75 -37.75,4.75 -35.907,4.75 ; -34.093,-4.75 34.093,-4.75 ; -34.093,4.75 37.75,4.75 37.75,-4.75 35.907,-4.75 ; 28.4,-1.075 28.4,1.075 ; 31.6,-1.075 31.6,1.075 ; 34.5,-0.004 ccw(c35.5,0) 36.227,0.687 ; -33.5,-1.4 33.5,-1.4 33.5,1.4 -33.5,1.4 -33.5,-1.4 ; 26.7,-1.075 26.7,1.075 33.3,1.075 33.3,-1.075 26.7,-1.075
  text "1" at -37.05,1.55 h1
  text "L" at -37.175,-2.425 h1
  text "3" at 34.7,2.875 h1
  text "B" at 32.675,-4.05 h1
  text "E" at -33.425,-4.275 h1
  text "2" at -33.425,3.225 h1
Mechanical 8:
  lines w0.1: -35.5,-3.75 -35,-3.75 ; -35.5,-1.25 -35,-1.25 ; -35.5,1.25 -35,1.25 ; -35.5,3.75 -35,3.75 ; -35,-4.25 -35,-3.75 ; -35,-3.25 -35,-3.75 ; -35,-1.75 -35,-1.25 ; -35,-0.75 -35,-1.25 ; -35,0.75 -35,1.25 ; -35,1.75 -35,1.25 ; -35,3.25 -35,3.75 ; -35,4.25 -35,3.75 ; -34.5,-3.75 -35,-3.75 ; -34.5,-1.25 -35,-1.25 ; -34.5,1.25 -35,1.25 ; -34.5,3.75 -35,3.75 ; 34.5,-3.75 35,-3.75 ; 34.5,1.25 35,1.25 ; 35,-4.25 35,-3.75 ; 35,-3.25 35,-3.75 ; 35,0.75 35,1.25 ; 35,1.75 35,1.25 ; 35.5,-3.75 35,-3.75 ; 35.5,1.25 35,1.25 ; 0,0 0.5,0 0,0 ; 0,0 0,-0.5 0,0 ; 0,0 0,0.5 0,0 ; 0,0 -0.5,0 0,0
Mechanical 14:
  circle w0.1: c35.5,0 r1
  circle w0.1: c-35.5,0 r1
  lines w0.1: 28.4,-1.075 28.4,1.075 ; 31.6,-1.075 31.6,1.075 ; -37.75,-4.75 37.75,-4.75 37.75,4.75 -37.75,4.75 -37.75,-4.75 ; -33.5,-1.4 -33.5,1.4 33.5,1.4 33.5,-1.4 -33.5,-1.4 ; 26.7,-1.075 26.7,1.075 33.3,1.075 33.3,-1.075 26.7,-1.075
  text "1" at -37.05,1.55 h1
  text "L" at -37.175,-2.425 h1
  text "3" at 34.7,2.875 h1
  text "B" at 32.675,-4.05 h1
  text "E" at -33.425,-4.275 h1
  text "2" at -33.425,3.225 h1
3D body "TRIM_BOURNS_PTL60-15R.stp": height 22.5, standoff -3.5, extent -37.75,-4.75 37.75,4.75

## TRIM_VISHAY_1280G [mm] "26 Turn Bulk Metal® Foil Technology Ultra High Precision Trimming Potentiometers, Body 19.05x4.83x7.11mm, Accutrim 1280G Series"
height 7.11
pads (3):
  round 2 hole 1.3: 1(6.355,-1.27) 2(-1.265,1.27) 3(-6.345,-1.27)
Top Overlay:
  lines w0.2: -9.715,-1.395 -11.235,-1.395 -11.235,-0.38 -10.475,-0.38 -10.475,0.38 -11.235,0.38 -11.235,1.395 -9.715,1.395 ; -1.723,2.54 -9.715,2.54 -9.715,-2.54 9.715,-2.54 9.715,2.54 -0.807,2.54
  text "CCW" at 4.8,0.6 h1
  text "W" at -1.8,-1.5 h1
  text "CW" at -7.3,0.6 h1
Mechanical 8:
  circle w0.1: c-6.345,-1.27 r0.65
  circle w0.1: c-6.345,-1.27 r1
  lines w0.1: -6.845,-1.27 -6.345,-1.27 ; -6.345,-1.77 -6.345,-1.27 ; -6.345,-0.77 -6.345,-1.27 ; -5.845,-1.27 -6.345,-1.27 ; -1.765,1.27 -1.265,1.27 ; -1.265,0.77 -1.265,1.27 ; -1.265,1.77 -1.265,1.27 ; -0.765,1.27 -1.265,1.27 ; -0.5,0 0,0 ; 0,-0.5 0,0 ; 0,0.5 0,0 ; 0.5,0 0,0 ; 5.855,-1.27 6.355,-1.27 ; 6.355,-1.77 6.355,-1.27 ; 6.355,-0.77 6.355,-1.27 ; 6.855,-1.27 6.355,-1.27
Mechanical 14:
  lines w0.1: -9.715,-1.395 -11.235,-1.395 -11.235,-0.38 -10.475,-0.38 -10.475,0.38 -11.235,0.38 -11.235,1.395 -9.715,1.395 ; -9.715,-2.54 -9.715,2.54 9.715,2.54 9.715,-2.54 -9.715,-2.54
  text "CCW" at 4.8,0.6 h1
  text "W" at -1.8,-1.5 h1
  text "CW" at -7.3,0.6 h1
3D body "TRIM_VISHAY_1280G.stp": height 7.11, standoff -3.81, extent -11.235,-2.54 9.715,2.54

## TRIM_VISHAY_T63XB [mm] "Trimming Potentiometer VISHAY T63YB Series (Side Adjustment)"
height 7
pads (3):
  round 1.4 hole 0.7: 1(-2.54,-1.27) 2(0,1.27) 3(2.54,-1.27)
Top Overlay:
  lines w0.2: -3.5,-2.5 3.5,-2.5 ; -3.5,-2.5 -3.5,-1.835 ; -3.5,-0.705 -3.5,2.5 3.5,2.5 3.5,-0.705 ; 3.5,-2.5 3.5,-1.835 ; 3.5,0.6 4.2,0.6 4.2,1.25 3.7,1.25 3.7,1.75 4.2,1.75 4.2,2.4 3.5,2.4
Mechanical 8:
  lines w0.1: -3.04,-1.27 -2.54,-1.27 ; -2.54,-1.77 -2.54,-1.27 ; -2.54,-0.77 -2.54,-1.27 ; -2.04,-1.27 -2.54,-1.27 ; -0.5,0 0,0 ; -0.5,1.27 0,1.27 ; 0,-0.5 0,0 ; 0,0.5 0,0 ; 0,0.77 0,1.27 ; 0,1.77 0,1.27 ; 0.5,0 0,0 ; 0.5,1.27 0,1.27 ; 2.04,-1.27 2.54,-1.27 ; 2.54,-1.77 2.54,-1.27 ; 2.54,-0.77 2.54,-1.27 ; 3.04,-1.27 2.54,-1.27
Mechanical 14:
  lines w0.1: 3.5,0.6 4.2,0.6 4.2,1.25 3.7,1.25 3.7,1.75 4.2,1.75 4.2,2.4 3.5,2.4 ; -3.5,-2.5 3.5,-2.5 3.5,2.5 -3.5,2.5 -3.5,-2.5
3D body "TRIM_VISHAY_T63XB.stp": height 7, standoff -3.6, extent -3.5,-2.5 4.2,2.5

## TRIM_VISHAY_T63YB [mm] "Trimming Potentiometer VISHAY T63YB Series (Top Adjustment)"
height 7.7
pads (3):
  round 1.4 hole 0.7: 1(-2.54,-1.27) 2(0,1.27) 3(2.54,-1.27)
Top Overlay:
  circle w0.2: c-2.1,1.47 r0.9
  lines w0.2: -3.5,-2.5 3.5,-2.5 ; -3.5,-2.5 -3.5,-1.835 ; -3.5,-0.705 -3.5,2.5 3.5,2.5 3.5,-0.705 ; -2.888,1.905 -1.665,0.682 ; -2.535,2.258 -1.312,1.035 ; 3.5,-2.5 3.5,-1.835
Mechanical 8:
  lines w0.1: -3.04,-1.27 -2.54,-1.27 ; -2.6,1.47 -2.1,1.47 ; -2.54,-1.77 -2.54,-1.27 ; -2.54,-0.77 -2.54,-1.27 ; -2.1,0.97 -2.1,1.47 ; -2.1,1.97 -2.1,1.47 ; -2.04,-1.27 -2.54,-1.27 ; -1.6,1.47 -2.1,1.47 ; -0.5,0 0,0 ; -0.5,1.27 0,1.27 ; 0,-0.5 0,0 ; 0,0.5 0,0 ; 0,0.77 0,1.27 ; 0,1.77 0,1.27 ; 0.5,0 0,0 ; 0.5,1.27 0,1.27 ; 2.04,-1.27 2.54,-1.27 ; 2.54,-1.77 2.54,-1.27 ; 2.54,-0.77 2.54,-1.27 ; 3.04,-1.27 2.54,-1.27
Mechanical 14:
  circle w0.1: c-2.1,1.47 r0.9
  lines w0.1: -2.888,1.905 -1.665,0.682 ; -2.535,2.258 -1.312,1.035 ; -3.5,-2.5 -3.5,2.5 3.5,2.5 3.5,-2.5 -3.5,-2.5
3D body "TRIM_VISHAY_T63YB.stp": height 7.5, standoff -3.6, extent -3.4,-2.5 3.4,2.5